# Altium footprint library PCBLIB-PCSB_5.1.3.PcbLib: 181 footprints (part 6 of 12)
Each footprint in its own frame and in the unit in brackets; x right, y up, seen from the top. Pads: shape width x height; smd on the part's side, far side on the other; paste and mask are expansions set on the pad; w line width, h text height; cw(c..) or ccw(c..) is an arc to the next point about the centre after c.
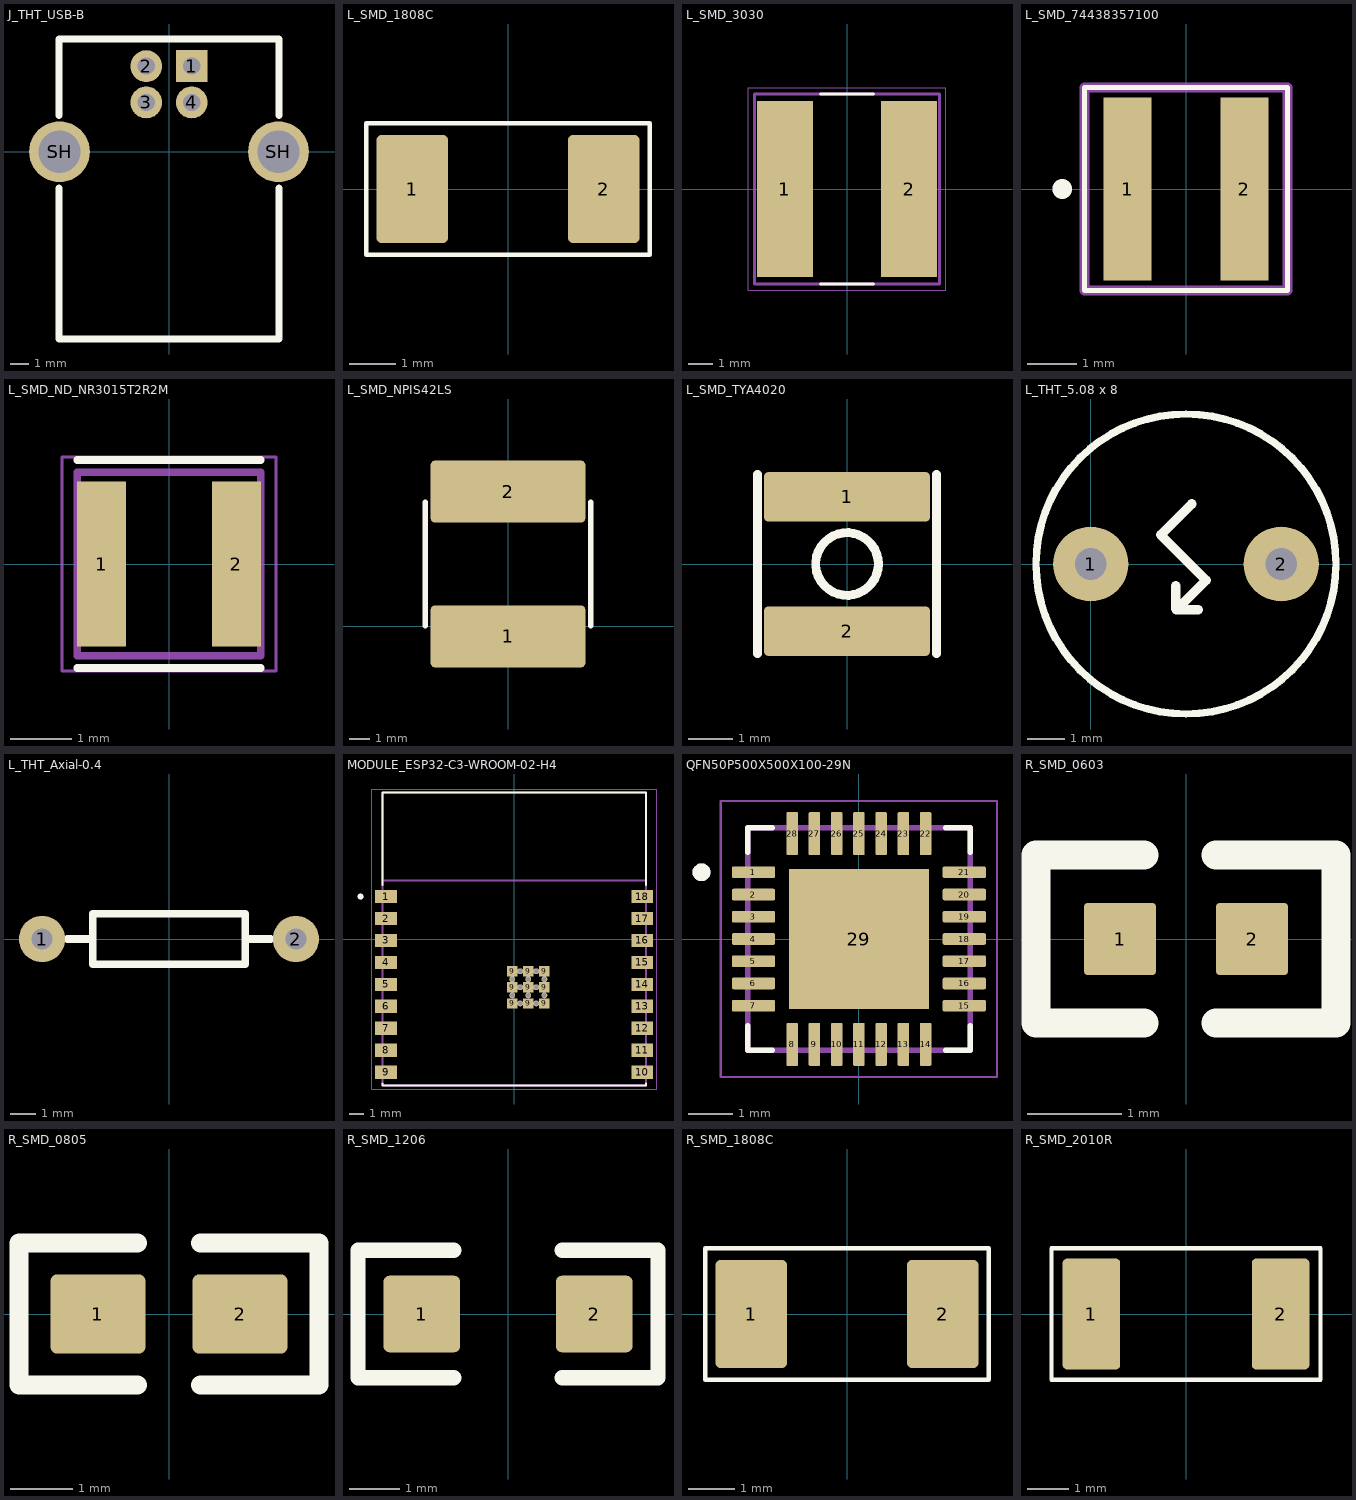
[diagram p5: the footprints below, top view; thin cyan lines are the x and y axes]

## J_THT_USB-B [mm] "LB-2024-04-15"
pads (6):
  rect 1.75x1.75 hole 0.95: 1(1.25,4.71)
  round 1.75 hole 0.95: 2(-1.25,4.71) 3(-1.25,2.71) 4(1.25,2.71)
  round 3.346 hole 2.33: SH(-6.02,0) SH(6.02,0)
Top Overlay:
  lines w0.4: -6.05,-2 -6.05,-10.3 6.05,-10.3 6.05,-2 ; -6.05,2 -6.05,6.2 6.05,6.2 6.05,2

## L_SMD_1808C [mm] "LB-2024-04-17"
height 2
pads (2):
  rrect15% 1.55x2.35 smd paste-0.02 mask+0.05: 1(-2.075,0) 2(2.075,0)
Top Overlay:
  lines w0.1: -3.075,-1.425 3.075,-1.425 3.075,1.425 -3.075,1.425 -3.075,-1.425

## L_SMD_3030 [mm]
height 2.05
pads (2):
  rect 2.3x7.2 smd: 1(-2.55,0) 2(2.55,0)
Top Overlay:
  lines w0.127: -1.08,-3.9 1.08,-3.9 ; -1.08,3.9 1.08,3.9
Mechanical 13:
  lines w0.127: -3.8,-3.9 -3.8,3.9 3.8,3.9 3.8,-3.9 -3.8,-3.9
Mechanical 15:
  lines w0.05: -4.05,-4.15 -4.05,4.15 4.05,4.15 4.05,-4.15 -4.05,-4.15

## L_SMD_74438357100 [mm]
pads (2):
  rect 0.97x3.7 smd: 1(-1.18,0) 2(1.18,0)
Top Overlay:
  lines w0.1: -2.05,-2.05 2.05,-2.05 2.05,2.05 -2.05,2.05 -2.05,-2.05
  lines w0.2: -2.5,-0.1 ccw(c-2.5,0) -2.5,0.1 ccw(c-2.5,0) -2.5,-0.1
Mechanical 13:
  lines w0.2: -2.05,-2.05 2.05,-2.05 2.05,2.05 -2.05,2.05 -2.05,-2.05

## L_SMD_ND_NR3015T2R2M [mm]
height 1.5
pads (2):
  rect 0.8x2.7 smd: 1(-1.1,0) 2(1.1,0)
Top Overlay:
  lines w0.127: -1.5,-1.7 1.5,-1.7 ; -1.5,1.7 1.5,1.7
Mechanical 13:
  lines w0.127: -1.5,-1.5 -1.5,1.5 1.5,1.5 1.5,-1.5 -1.5,-1.5
Mechanical 15:
  lines w0.05: -1.75,-1.75 -1.75,1.75 1.75,1.75 1.75,-1.75 -1.75,-1.75
3D body "step_temp.STEP": height 1.5, standoff 0, extent -1.5,-1.5 1.5,1.5

## L_SMD_NPIS42LS [mm] "LB-2024-04-17"
pads (2):
  rrect15% 7.5x3 smd paste-0.02 mask+0.05: 1(0,-0.5) 2(0,6.5)
Top Overlay:
  lines w0.254: -4,0 -4,3 -4,6 ; 4,0 4,3 4,6

## L_SMD_TYA4020 [mm] "LB-2024-04-25"
height 2.1
pads (2):
  rrect15% 3.7x1.1 smd paste-0.02 mask+0.05: 1(0,1.5) 2(0,-1.5)
Top Overlay:
  circle w0.2: c0,0 r0.7
  lines w0.2: -2,-2 -2,0 -2,2 ; 2,-2 2,0 2,2

## L_THT_5.08 x 8 [mm] "LB-2024-04-17"
pads (2):
  round 2 hole 0.85: 1(0,0) 2(5.08,0)
Top Overlay:
  circle w0.2: c2.54,0 r4
  lines w0.254: 2.261,-0.762 2.261,-1.194 ; 2.261,-0.584 2.261,-1.194 ; 2.692,1.6 1.867,0.775 3.073,-0.432 2.286,-1.219 ; 2.261,-1.194 2.286,-1.219 ; 2.286,-1.219 2.87,-1.219 ; 2.286,-1.219 2.87,-1.219 ; 2.286,-1.219 2.87,-1.219

## L_THT_Axial-0.4 [mm]
pads (2):
  round 1.85 hole 0.85: 1(-5.08,0) 2(5.08,0)
Top Overlay:
  lines w0.305: -4.064,0 -3.048,0 ; 3.048,0 4.064,0 ; -3.048,-1.016 3.048,-1.016 3.048,1.016 -3.048,1.016 -3.048,-1.016

## MODULE_ESP32-C3-WROOM-02-H4 [mm]
pads (39):
  rect 1.5x0.9 smd: 1(-8.75,2.9) 2(-8.75,1.4) 3(-8.75,-0.1) 4(-8.75,-1.6) 5(-8.75,-3.1) 6(-8.75,-4.6) 7(-8.75,-6.1) 8(-8.75,-7.6) 9(-8.75,-9.1) 10(8.75,-9.1) 11(8.75,-7.6) 12(8.75,-6.1) 13(8.75,-4.6) 14(8.75,-3.1) 15(8.75,-1.6) 16(8.75,-0.1) 17(8.75,1.4) 18(8.75,2.9)
  rect 0.7x0.7 smd: 9(-0.14,-4.4) 9(-0.14,-3.3) 9(-0.14,-2.2) 9(0.96,-4.4) 9(0.96,-3.3) 9(0.96,-2.2) 9(2.06,-4.4) 9(2.06,-3.3) 9(2.06,-2.2)
  round 0.4 hole 0.3 mask+0: 9(-0.14,-3.85) 9(-0.14,-2.75) 9(0.41,-4.4) 9(0.41,-3.3) 9(0.41,-2.2) 9(0.96,-3.85) 9(0.96,-2.75) 9(1.51,-4.4) 9(1.51,-3.3) 9(1.51,-2.2) 9(2.06,-3.85) 9(2.06,-2.75)
Top Overlay:
  circle w0.2: c-10.5,2.9 r0.1
  lines w0.127: -9,-9.87 -9,-10 9,-10 9,-9.87 ; -9,3.67 -9,10 9,10 9,3.67
Mechanical 13:
  circle w0.2: c-10.5,2.9 r0.1
  lines w0.127: -9,4 9,4 ; -9,4 -9,-10 9,-10 9,4 ; -9,4 -9,10 9,10 9,4
Mechanical 15:
  lines w0.05: -9.75,-10.25 9.75,-10.25 9.75,10.25 -9.75,10.25 -9.75,-10.25
3D body "step_temp.STEP": height 3.35, standoff 0, extent -9,-10 9,10

## QFN50P500X500X100-29N [mm]
pads (29):
  rrect25% 0.97x0.26 smd: 1(-2.37,1.5) 2(-2.37,1) 3(-2.37,0.5) 4(-2.37,0) 5(-2.37,-0.5) 6(-2.37,-1) 7(-2.37,-1.5) 15(2.37,-1.5) 16(2.37,-1) 17(2.37,-0.5) 18(2.37,0) 19(2.37,0.5) 20(2.37,1) 21(2.37,1.5)
  rrect25% 0.26x0.97 smd: 8(-1.5,-2.37) 9(-1,-2.37) 10(-0.5,-2.37) 11(0,-2.37) 12(0.5,-2.37) 13(1,-2.37) 14(1.5,-2.37) 22(1.5,2.37) 23(1,2.37) 24(0.5,2.37) 25(0,2.37) 26(-0.5,2.37) 27(-1,2.37) 28(-1.5,2.37)
  rect 3.15x3.15 smd paste-0.575: 29(0,0)
Top Overlay:
  circle w0.2: c-3.54,1.5 r0.1
  lines w0.127: -2.5,-1.95 -2.5,-2.5 -1.95,-2.5 ; -2.5,1.95 -2.5,2.5 -1.95,2.5 ; 1.95,-2.5 2.5,-2.5 2.5,-1.95 ; 1.95,2.5 2.5,2.5 2.5,1.95
Mechanical 13:
  circle w0.2: c-3.54,1.5 r0.1
  lines w0.127: -2.5,-2.5 -2.5,2.5 2.5,2.5 2.5,-2.5 -2.5,-2.5
Mechanical 15:
  lines w0.05: -3.105,-3.105 -3.105,3.105 3.105,3.105 3.105,-3.105 -3.105,-3.105

## R_SMD_0603 [mil] "LB-2024-04-17"
pads (2):
  rrect10% 30x30 smd paste-0.79 mask+1.97: 1(-27.5,0) 2(27.5,0)
Top Overlay:
  lines w12: -17.5,-35 -62.5,-35 -62.5,35 -17.5,35 ; 12.5,-35 62.5,-35 62.5,35 12.5,35

## R_SMD_0805 [mil] "LB-2024-04-17"
pads (2):
  rrect15% 60x50 smd paste-0.79 mask+1.97: 1(-45,0) 2(45,0)
Top Overlay:
  lines w12: -20,-45 -95,-45 -95,45 -20,45 ; 20,-45 95,-45 95,45 20,45

## R_SMD_1206 [mil] "LB-2024-04-17"
pads (2):
  rrect15% 60x60 smd paste-0.79 mask+1.97: 1(-67.5,0) 2(67.5,0)
Top Overlay:
  lines w12: -42.5,-50 -117.5,-50 -117.5,50 -42.5,50 ; 42.5,-50 117.5,-50 117.5,50 42.5,50

## R_SMD_1808C [mm] "LB-2024-04-17"
height 2
pads (2):
  rrect15% 1.55x2.35 smd paste-0.02 mask+0.05: 1(-2.075,0) 2(2.075,0)
Top Overlay:
  lines w0.1: -3.075,-1.425 -3.075,1.425 3.075,1.425 3.075,-1.425 -3.075,-1.425

## R_SMD_2010R [mm] "LB-2024-04-17"
height 0.7
pads (2):
  rrect15% 1.4x2.7 smd paste-0.02 mask+0.05: 1(-2.3,0) 2(2.3,0)
Top Overlay:
  lines w0.1: -3.275,-1.6 3.275,-1.6 3.275,1.6 -3.275,1.6 -3.275,-1.6